# EAGLE library part M40-3200445R (library M40-3200445R)
1.00mm Pitch DIL Vertical SMT Pin Header, location pegs, gold, 4+4 contacts, pick & place (Tape & Reel packing) Source: Datasheet <https://cdn.harwin.com/pdfs/M40-320R.pdf>
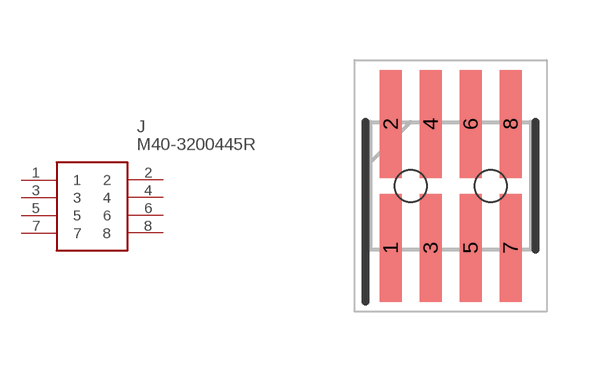
[diagram p0: symbol with the pads of HUSSP8W30P100_2X4_400X320X365P; footprint HUSSP8W30P100_2X4_400X320X365P]

Designator prefix J

## M40-3200445R (Description: 1.00mm Pitch DIL Vertical SMT Pin Header, location pegs, gold, 4+4 contacts, pick & place (Tape & Reel packing); Height: mm; Manufacturer_Name: Harwin; Manufacturer_Part_Number: M40-3200445R; Mouser_Part_Number: 855-M40-3200445R; Mouser_Price-Stock: https://www.mouser.co.uk/ProductDetail/Harwin/M40-3200445R?qs=aU5qWCfurfxafIJaAqcDbg%3D%3D)  [HUSSP8W30P100_2X4_400X320X365P]
1  1
2  2
3  3
4  4
5  5
6  6
7  7
8  8

## Footprint HUSSP8W30P100_2X4_400X320X365P (pad centres in mm)
M40-3010646
smd 0.55 x 2.7: 1 -1.5,-1.55; 2 -1.5,1.55; 3 -0.5,-1.55; 4 -0.5,1.55; 5 0.5,-1.55; 6 0.5,1.55; 7 1.5,-1.55; 8 1.5,1.55
hole 0.8 at -1,0
hole 0.8 at 1,0